# Altium footprint library libreriaPcb.PcbLib: 683 footprints (part 4 of 44)
Each footprint in its own frame and in the unit in brackets; x right, y up, seen from the top. Pads: shape width x height; smd on the part's side, far side on the other; paste and mask are expansions set on the pad; w line width, h text height; cw(c..) or ccw(c..) is an arc to the next point about the centre after c.
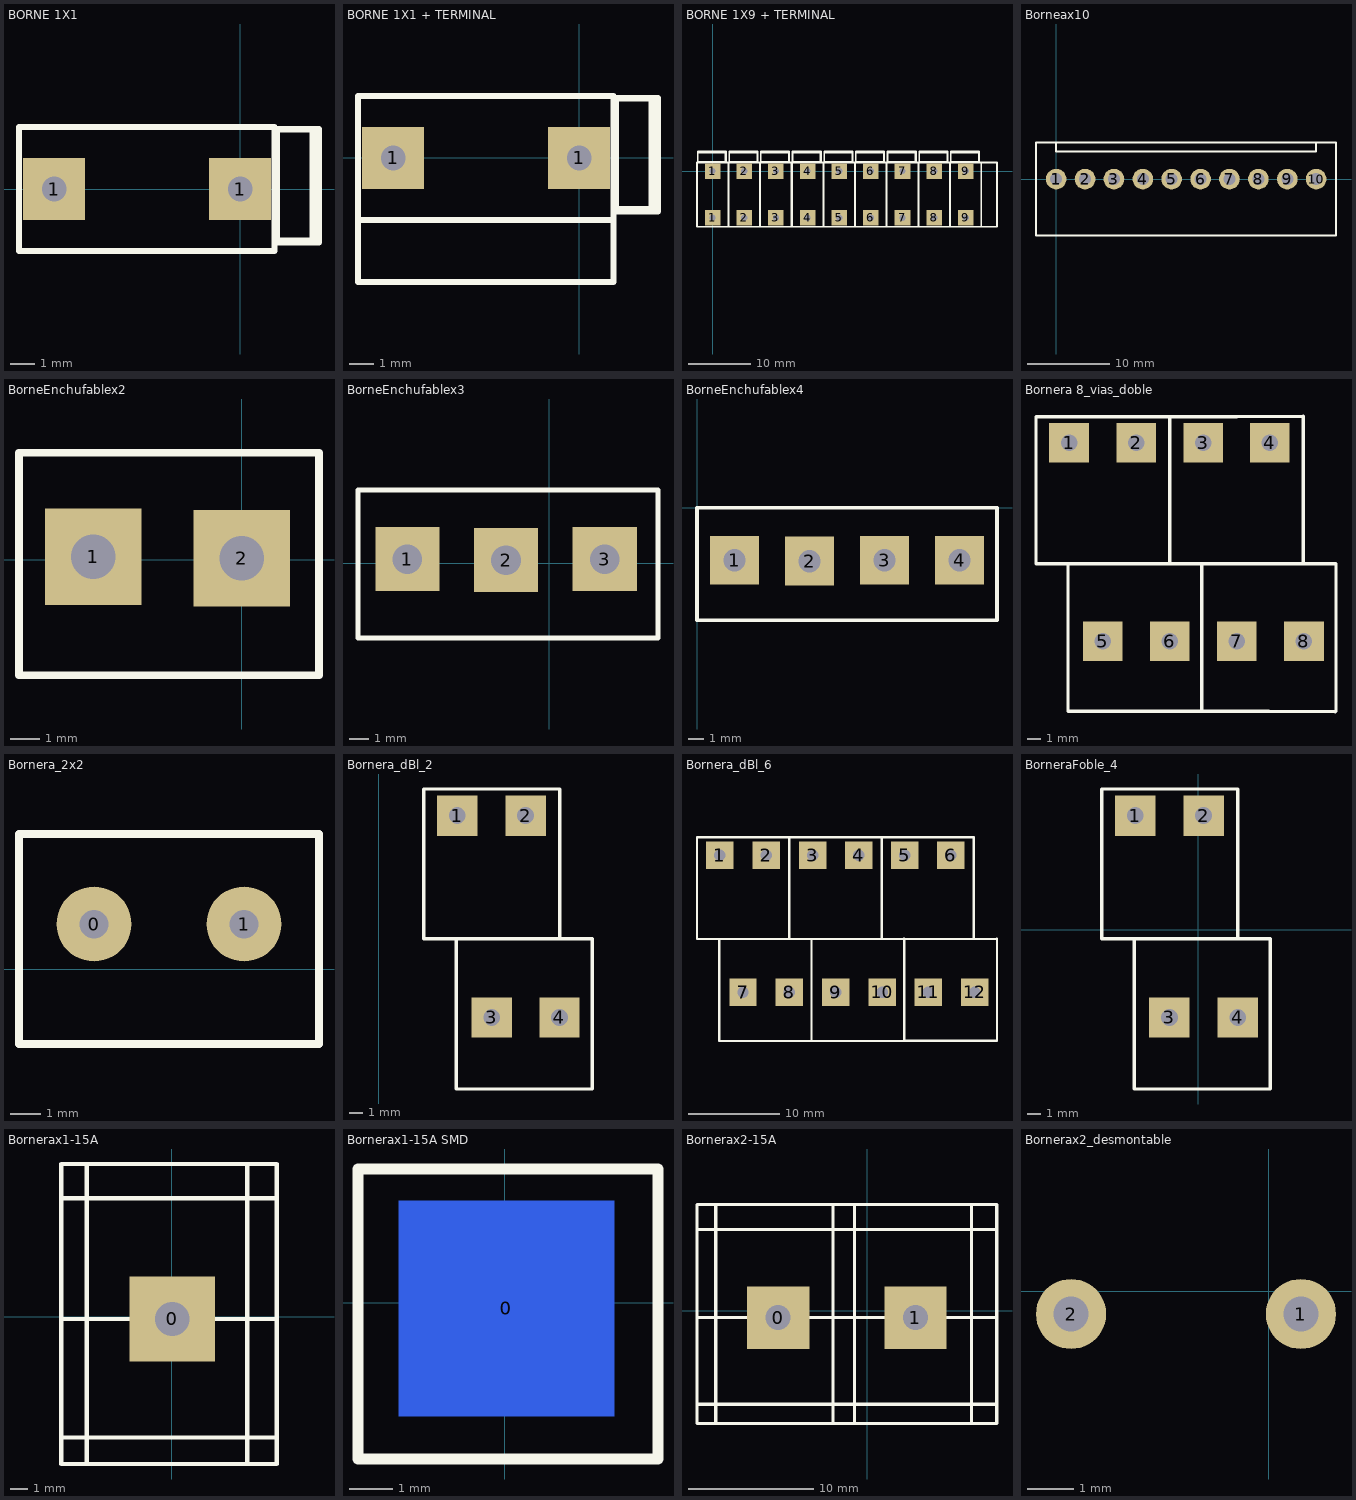
[diagram p3: the footprints below, top view; thin cyan lines are the x and y axes]

## BORNE 1X1 [mm] "DECA MX"
pads (2):
  rect 2.5x2.5 hole 1: 1(-7.5,0) 1(0,0)
Top Overlay:
  lines w0.254: 1.382,-2.159 3.175,-2.159 3.175,2.413 1.469,2.413 1.469,-2.072 2.834,-2.072 ; 2.921,-2.159 2.921,2.413 ; -8.918,-2.5 -8.918,2.5 1.382,2.5 1.382,-2.5 -8.918,-2.5

## BORNE 1X1 + TERMINAL [mm] "DECA MX FIN"
pads (2):
  rect 2.5x2.5 hole 1: 1(-7.5,0) 1(0,0)
Top Overlay:
  lines w0.254: 1.382,-2.159 3.175,-2.159 3.175,2.413 1.469,2.413 1.469,-2.072 2.834,-2.072 ; 2.921,-2.159 2.921,2.413 ; -8.918,-2.5 -8.918,-5 1.382,-5 1.382,-2.5 ; -8.918,-2.5 -8.918,2.5 1.382,2.5 1.382,-2.5 ; -8.918,-2.5 1.382,-2.5

## BORNE 1X9 + TERMINAL [mm] "DECA MX"
pads (18):
  rect 2.5x2.5 hole 1: 1(0,-7.5) 1(0,0) 2(5.08,-7.5) 2(5.08,0) 3(10.16,-7.5) 3(10.16,0) 4(15.24,-7.5) 4(15.24,0) 5(20.32,-7.5) 5(20.32,0) 6(25.4,-7.5) 6(25.4,0) 7(30.48,-7.5) 7(30.48,0) 8(35.56,-7.5) 8(35.56,0) 9(40.64,-7.5) 9(40.64,0)
Top Overlay:
  lines w0.254: -2.413,2.921 2.159,2.921 ; 2.072,2.834 2.072,1.469 -2.413,1.469 -2.413,3.175 2.159,3.175 2.159,1.382 ; 2.667,2.921 7.239,2.921 ; 7.152,2.834 7.152,1.469 2.667,1.469 2.667,3.175 7.239,3.175 7.239,1.382 ; 7.747,2.921 12.319,2.921 ; 12.232,2.834 12.232,1.469 7.747,1.469 7.747,3.175 12.319,3.175 12.319,1.382 ; 12.827,2.921 17.399,2.921 ; 17.312,2.834 17.312,1.469 12.827,1.469 12.827,3.175 17.399,3.175 17.399,1.382 ; 17.907,2.921 22.479,2.921 ; 22.392,2.834 22.392,1.469 17.907,1.469 17.907,3.175 22.479,3.175 22.479,1.382 ; 22.987,2.921 27.559,2.921 ; 27.472,2.834 27.472,1.469 22.987,1.469 22.987,3.175 27.559,3.175 27.559,1.382 ; 28.067,2.921 32.639,2.921 ; 32.552,2.834 32.552,1.469 28.067,1.469 28.067,3.175 32.639,3.175 32.639,1.382 ; 33.147,2.921 37.719,2.921 ; 37.632,2.834 37.632,1.469 33.147,1.469 33.147,3.175 37.719,3.175 37.719,1.382 ; 38.227,2.921 42.799,2.921 ; 42.712,2.834 42.712,1.469 38.227,1.469 38.227,3.175 42.799,3.175 42.799,1.382 ; 43.14,-8.918 43.14,1.382 ; 43.14,-8.918 38.14,-8.918 38.14,1.382 43.14,1.382 ; 43.14,-8.918 45.64,-8.918 45.64,1.382 43.14,1.382 ; -2.5,-8.918 2.5,-8.918 2.5,1.382 -2.5,1.382 -2.5,-8.918 ; 2.58,-8.918 7.58,-8.918 7.58,1.382 2.58,1.382 2.58,-8.918 ; 7.66,-8.918 12.66,-8.918 12.66,1.382 7.66,1.382 7.66,-8.918 ; 12.74,-8.918 17.74,-8.918 17.74,1.382 12.74,1.382 12.74,-8.918 ; 17.82,-8.918 22.82,-8.918 22.82,1.382 17.82,1.382 17.82,-8.918 ; 22.9,-8.918 27.9,-8.918 27.9,1.382 22.9,1.382 22.9,-8.918 ; 27.98,-8.918 32.98,-8.918 32.98,1.382 27.98,1.382 27.98,-8.918 ; 33.06,-8.918 38.06,-8.918 38.06,1.382 33.06,1.382 33.06,-8.918

## Borneax10 [mm]
pads (10):
  round 2.5 hole 1.45: 1(0,0) 2(3.5,0) 3(7,0) 4(10.5,0) 5(13.99,0) 6(17.49,0) 7(20.99,0) 8(24.49,0) 9(27.99,0) 10(31.49,0)
Top Overlay:
  lines w0.254: 0.01,4.45 0,4.44 0,3.32 31.49,3.32 31.49,4.45 ; 33.88,-6.84 33.89,-6.85 ; 33.89,-6.85 -2.44,-6.85 -2.43,4.45 33.89,4.45 33.89,-6.85

## BorneEnchufablex2 [mm]
pads (2):
  rect 3.25x3.25 hole 1.5: 1(-5,0.1) 2(0,0.046)
Top Overlay:
  lines w0.254: -7.5,-3.9 -7.5,3.6 2.6,3.6 2.6,-3.9 -7.5,-3.9
3D body: height 10, standoff -2, extent -0.694,-0.652 0.7,0.745
3D body: height 10, standoff -2, extent -5.694,-0.598 -4.3,0.799
3D body: height 12, standoff 0, extent -2.5,2.5 2.514,3.637
3D body: height 12, standoff 0, extent -7.5,2.5 -2.486,3.637
3D body: height 12, standoff 0, extent -7.5,-3.807 2.6,-3.4
3D body: height 3, standoff 0, extent -7.627,-4.027 2.6,3.727

## BorneEnchufablex3 [mm]
pads (3):
  rect 3.25x3.25 hole 1.5: 1(-7.2,0.2) 2(-2.2,0.146) 3(2.8,0.2)
Top Overlay:
  lines w0.254: -9.7,-3.8 -9.7,3.7 5.5,3.7 5.5,-3.8 -9.7,-3.8
3D body: height 10, standoff -2, extent 2.106,-0.498 3.5,0.899
3D body: height 10, standoff -2, extent -2.894,-0.552 -1.5,0.845
3D body: height 10, standoff -2, extent -7.894,-0.498 -6.5,0.899
3D body: height 12, standoff 0, extent 0.3,2.6 5.314,3.737
3D body: height 12, standoff 0, extent -4.7,2.6 0.314,3.737
3D body: height 12, standoff 0, extent -9.7,2.6 -4.686,3.737
3D body: height 12, standoff 0, extent -9.7,-3.707 5.5,-3.3
3D body: height 3, standoff 0, extent -9.827,-3.927 5.5,3.827

## BorneEnchufablex4 [mm]
pads (4):
  rect 3.25x3.25 hole 1.5: 1(2.5,-3.5) 2(7.5,-3.554) 3(12.5,-3.5) 4(17.5,-3.5)
Top Overlay:
  lines w0.254: 0,-7.5 0,0 20,0 20,-7.5 0,-7.5
3D body: height 10, standoff -2, extent 11.806,-4.198 13.2,-2.801
3D body: height 10, standoff -2, extent 6.806,-4.252 8.2,-2.855
3D body: height 10, standoff -2, extent 1.806,-4.198 3.2,-2.801
3D body: height 10, standoff -2, extent 16.806,-4.198 18.2,-2.801
3D body: height 12, standoff 0, extent 15,-1 20.014,0.137
3D body: height 12, standoff 0, extent 10,-1.1 15.014,0.037
3D body: height 12, standoff 0, extent 5,-1.1 10.014,0.037
3D body: height 12, standoff 0, extent 0,-1.1 5.014,0.037
3D body: height 12, standoff 0, extent 0,-7.407 20,-7
3D body: height 3, standoff 0, extent -0.127,-7.627 20.127,0.127

## Bornera 8_vias_doble [mm]
pads (8):
  rect 3x3 hole 1.25: 1(-21.557,-16.265) 2(-16.477,-16.265) 3(-11.397,-16.265) 4(-6.357,-16.265) 5(-19.017,-31.265) 6(-13.937,-31.265) 7(-8.857,-31.265) 8(-3.777,-31.265)
Top Overlay:
  lines w0.254: -21.63,-25.409 -21.63,-36.585 -6.43,-36.585 -1.41,-36.6 ; -13.937,-25.409 -13.937,-14.285 ; -11.51,-36.585 -11.51,-25.409 ; -8.857,-25.409 -1.41,-25.4 ; -6.43,-25.409 -24.057,-25.409 -24.057,-14.285 -8.857,-14.285 -3.83,-14.26 ; -3.817,-25.409 -3.817,-14.285 ; -1.35,-36.585 -1.35,-25.409

## Bornera_2x2 [mm]
pads (2):
  round 2.5 hole 0.95: 0(5,1.5) 1(10,1.5)
Top Overlay:
  lines w0.254: 2.5,-2.5 12.5,-2.5 12.5,4.5 2.5,4.5 2.5,0 2.5,-2.5
3D body "1890963.stp": height 15, standoff -3.5, extent 2.48,-3.27 13.05,6.23

## Bornera_dBl_2 [mm]
pads (4):
  rect 3x3 hole 1.25: 1(5.823,-10.315) 2(10.903,-10.315) 3(8.383,-25.315) 4(13.423,-25.315)
Top Overlay:
  lines w0.254: 5.75,-19.459 5.75,-30.635 15.87,-30.635 15.87,-19.459 3.323,-19.459 3.323,-8.335 13.443,-8.335 13.443,-19.459
3D body "1725012.stp": height 25.2, standoff -3.5, extent 2.639,-29.9 15.88,-8.5

## Bornera_dBl_6 [mm]
pads (12):
  rect 3x3 hole 1.25: 1(5.823,-10.315) 2(10.903,-10.315) 3(15.983,-10.315) 4(21.023,-10.315) 5(26.06,-10.315) 6(31.11,-10.315) 7(8.363,-25.315) 8(13.443,-25.315) 9(18.523,-25.315) 10(23.603,-25.315) 11(28.67,-25.315) 12(33.76,-25.315)
Top Overlay:
  lines w0.254: 5.75,-19.459 5.75,-30.635 20.95,-30.635 25.97,-30.63 ; 13.443,-19.459 13.443,-8.335 ; 15.87,-30.635 15.87,-19.459 ; 18.523,-19.459 25.97,-19.45 ; 20.95,-19.459 3.323,-19.459 3.323,-8.335 18.523,-8.335 23.55,-8.33 33.61,-8.33 33.64,-8.3 33.633,-19.359 ; 23.563,-19.459 23.563,-8.335 ; 26.02,-19.439 26.02,-30.615 36.12,-30.61 ; 26.03,-30.635 26.03,-19.459 36.12,-19.43 ; 36.18,-30.615 36.18,-19.439
3D body "1725012.stp": height 25.2, standoff -3.5, extent 2.639,-29.9 15.88,-8.5
3D body "1725012.stp": height 25.2, standoff -3.5, extent 12.779,-29.9 26.02,-8.5
3D body "1725012.stp": height 25.2, standoff -3.5, extent 22.92,-29.9 36.16,-8.5

## BorneraFoble_4 [mm]
pads (4):
  rect 3x3 hole 1.25: 1(-4.697,8.495) 2(0.383,8.495) 3(-2.157,-6.505) 4(2.923,-6.505)
Top Overlay:
  lines w0.254: -4.77,-0.649 -4.77,-11.825 5.35,-11.825 5.35,-0.649 -7.197,-0.649 -7.197,10.475 2.923,10.475 2.923,-0.649

## Bornerax1-15A [mm]
pads (1):
  rect 5x5 hole 2: 0(0.039,-0.135)
Top Overlay:
  lines w0.254: -6.438,-7.069 6.15,-7.069 ; -6.412,-0.135 6.15,-0.135 ; -6.412,6.926 6.15,6.926 ; -4.965,-8.619 -4.965,8.933 ; 4.433,-8.619 4.433,8.933 ; 6.15,-8.619 -6.463,-8.619 -6.463,8.933 6.15,8.933 ; 6.161,-8.619 6.161,8.933
3D body: height 18, standoff 0, extent -6.463,-8.618 -4.965,8.932
3D body: height 18, standoff 0, extent 4.663,-8.542 6.161,9.008
3D body: height 2, standoff 0, extent -6.483,6.952 6.15,8.729
3D body: height 2, standoff 0, extent -6.361,-7.857 6.175,-7.044
3D body: height 10, standoff 0, extent -4.965,-7.069 4.725,7.002
3D body: height 11.2, standoff 10, extent -4.38,-6.612 3.849,6.545
3D body: height 13, standoff 11, extent -2.961,-3.134 3.039,2.864

## Bornerax1-15A SMD [mm]
pads (1):
  rect 5x5 smd far side: 0(0.039,-0.135)
Top Overlay:
  lines w0.254: -3.4,-3.625 3.55,-3.625 3.55,3.1 -3.4,3.1 -3.4,-3.625

## Bornerax2-15A [mm]
pads (2):
  rect 5x5 hole 2: 0(-7.136,-0.535) 1(3.862,-0.535)
Top Overlay:
  lines w0.254: -13.613,-7.469 10.39,-7.469 ; -13.587,-0.535 10.365,-0.535 ; -13.587,6.526 10.365,6.526 ; -12.14,-9.019 -12.14,8.533 ; -2.742,-9.019 -2.742,8.533 ; -1.014,-9.019 -1.014,8.533 -0.989,8.533 ; 8.358,-9.019 8.358,8.533 ; -13.638,-9.019 10.365,-9.019 10.365,8.533 -13.638,8.533 -13.638,-9.019
3D body: height 18, standoff 0, extent -13.638,-9.018 -12.14,8.532
3D body: height 18, standoff 0, extent -2.512,-8.942 -1.014,8.608
3D body: height 18, standoff 0, extent 8.588,-9.056 10.085,8.494
3D body: height 2, standoff 0, extent -13.74,6.692 10.288,8.469
3D body: height 2, standoff 0, extent -13.536,-8.257 10.212,-7.444
3D body: height 10, standoff 0, extent -12.14,-7.469 8.485,6.602
3D body: height 11.2, standoff 10, extent -0.252,-7.114 7.977,6.044
3D body: height 11.2, standoff 10, extent -11.555,-7.012 -3.326,6.145
3D body: height 13, standoff 11, extent 0.863,-3.534 6.863,2.464
3D body: height 13, standoff 11, extent -10.136,-3.534 -4.136,2.464

## Bornerax2_desmontable [mil]
height 590.55
pads (2):
  round 60 hole 30: 1(27.56,-19.68) 2(-169.29,-19.68)
3D body "User Library-TB5_08-2R.STEP": height 332.68, standoff -165.35, extent -315.74,-417.32 163,55.13